# Altium footprint library BGA38.PcbLib: 1 footprints
Each footprint in its own frame and in the unit in brackets; x right, y up, seen from the top. Pads: shape width x height; smd on the part's side, far side on the other; paste and mask are expansions set on the pad; w line width, h text height; cw(c..) or ccw(c..) is an arc to the next point about the centre after c.
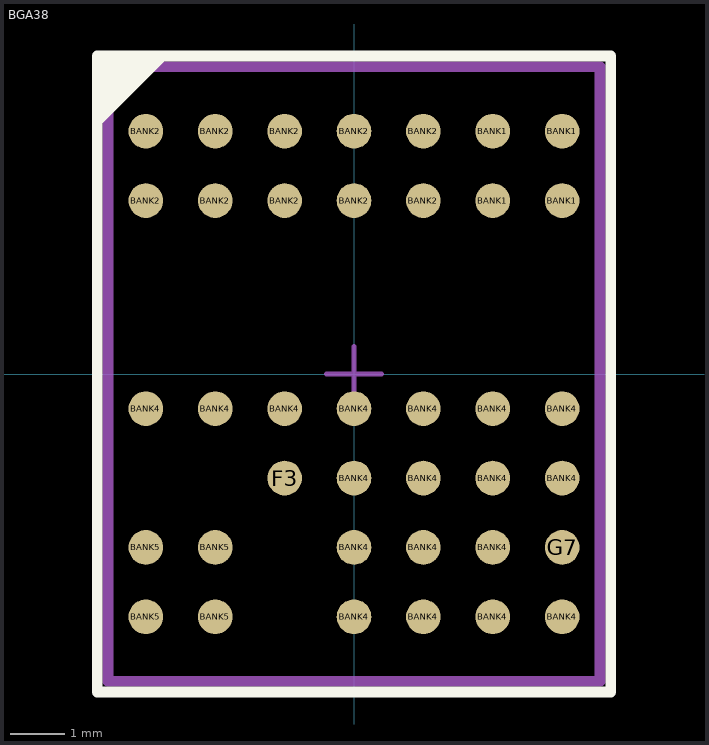
[diagram p0: the footprint, top view; thin cyan lines are the x and y axes]

## BGA38 [mil] "BGA Package 38-Lead (11.25mm ? 9.00mm ? 4.92mm) (Reference LTC DWG # 05-08-1925 Rev A)"
height 193.7
pads (38):
  round 25 smd: BANK1(100,125) BANK1(100,175) BANK1(150,125) BANK1(150,175) BANK2(-150,125) BANK2(-150,175) BANK2(-100,125) BANK2(-100,175) BANK2(-50,125) BANK2(-50,175) BANK2(0,125) BANK2(0,175) BANK2(50,125) BANK2(50,175) BANK4(-150,-25) BANK4(-100,-25) BANK4(-50,-25) BANK4(0,-175) BANK4(0,-125) BANK4(0,-75) BANK4(0,-25) BANK4(50,-175) BANK4(50,-125) BANK4(50,-75) BANK4(50,-25) BANK4(100,-175) BANK4(100,-125) BANK4(100,-75) BANK4(100,-25) BANK4(150,-175) BANK4(150,-75) BANK4(150,-25) BANK5(-150,-175) BANK5(-150,-125) BANK5(-100,-175) BANK5(-100,-125) F3(-50,-75) G7(150,-125)
Top Overlay:
  region: -185.04,229.33 -132.87,229.33 -185.04,177.17
  lines w7.87: -185.04,-229.33 -185.04,229.33 185.04,229.33 185.04,-229.33 -185.04,-229.33
Mechanical 7:
  lines w7.87: -177.17,-221.46 177.17,-221.46 177.17,221.46 -177.17,221.46 -177.17,-221.46
Mechanical 15:
  lines w3.94: -19.69,0 19.68,0 ; 0,-19.69 0,19.68
3D body "User Library-38-BGA.STEP": height 181.89, standoff -1.97, extent -177.16,-221.45 177.17,221.46